# EAGLE library part 182-009-113R531 (library con-amphenol)
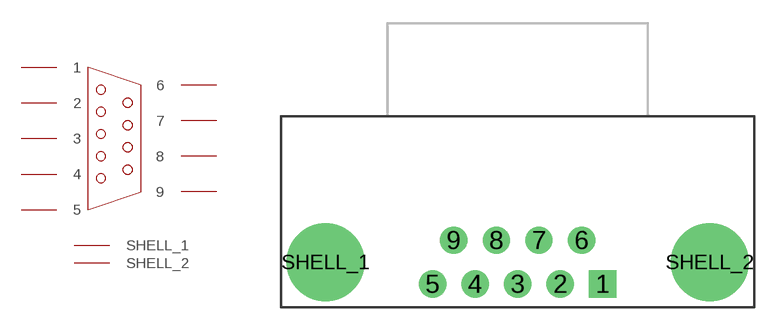
[diagram p13: symbol with the pads of 182-009-113R531; footprint 182-009-113R531]

Designator prefix J

## 182-009-113R531  [182-009-113R531]
1  1
2  2
3  3
4  4
5  5
6  6
7  7
8  8
9  9
SHELL_1  SHELL_1
SHELL_2  SHELL_2

## Footprint 182-009-113R531 (pad centres in mm)
drill 1.092 pad 1.778 square: 1 5.537,-1.422
drill 1.092 pad 1.778: 2 2.769,-1.422; 3 0,-1.422; 4 -2.769,-1.422; 5 -5.537,-1.422; 6 4.153,1.422; 7 1.384,1.422; 8 -1.384,1.422; 9 -4.153,1.422
drill 3.048 pad 5.08: SHELL_1 -12.497,0; SHELL_2 12.497,0